# Altium schematic symbol library EVQ-PAC04M.SchLib: 2 symbols
Pins are listed as number, name and electrical type; pins without a type are passive.

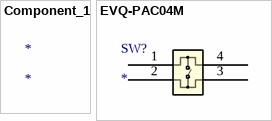
[diagram p0: symbols Component_1 to EVQ-PAC04M]

## Component_1
designator *

## EVQ-PAC04M
designator SW?
No Description Available; Mfr_Name: Panasonic; RefDes: RefDes; Type: Type
footprint EVQ-PAC04M_PAN
pins: 1, 2, 3, 4